# EAGLE library part PINH2X3 (library wolfi)
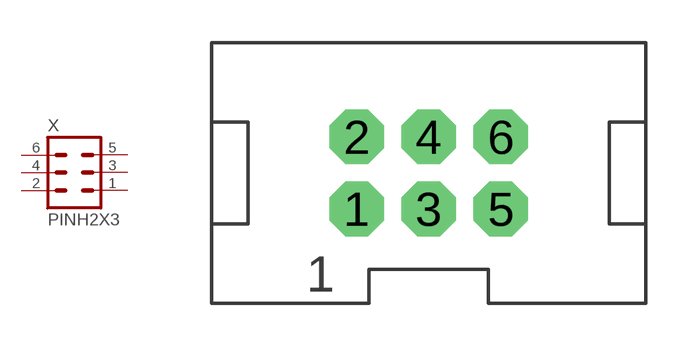
[diagram p7: symbol with the pads of MA03/2; footprint MA03/2]

Designator prefix X

## PINH2X3N  [MA03/2]
1  1  pas
2  2  pas
3  3  pas
4  4  pas
5  5  pas
6  6  pas

## Footprint MA03/2 (pad centres in mm)
drill 1 pad 1.93 octagon: 1 -2.54,-1.27; 2 -2.54,1.27; 3 0,-1.27; 4 0,1.27; 5 2.54,-1.27; 6 2.54,1.27